# Altium schematic symbol library 分立器件.SchLib: 215 symbols (part 1 of 2)
Pins are listed as number, name and electrical type; pins without a type are passive.

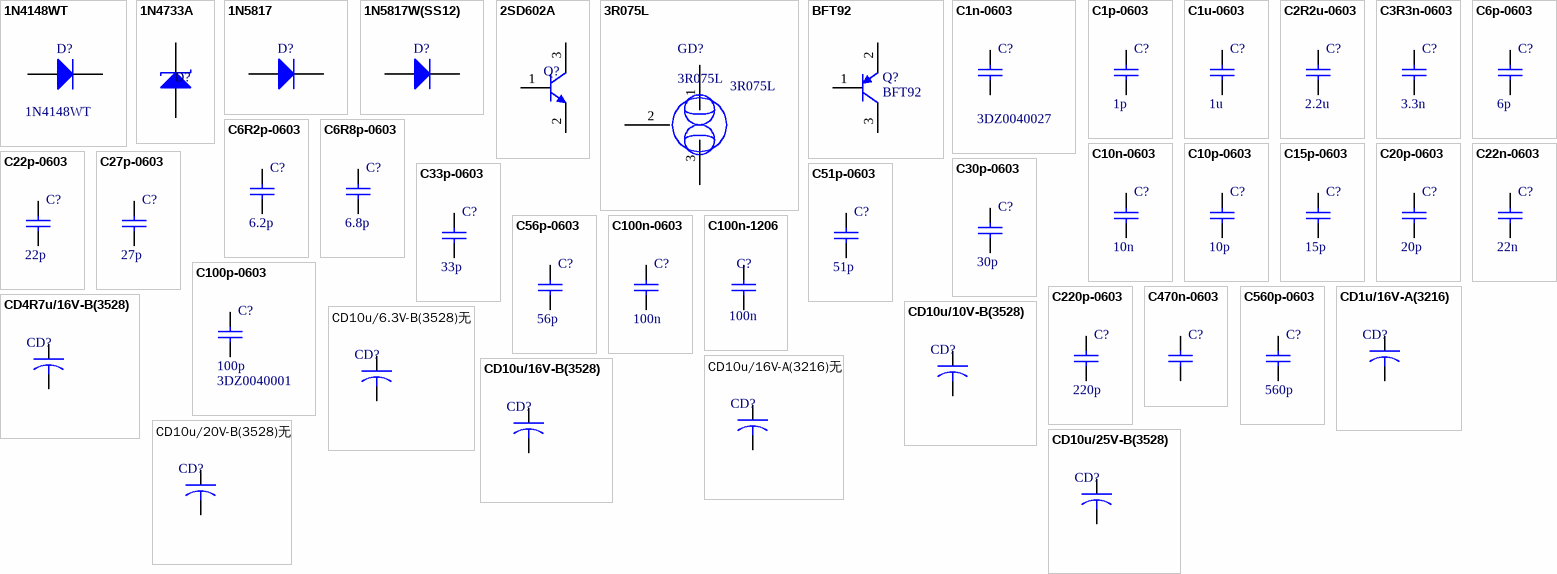
[diagram p0: symbols 1N4148WT to CD10u/25V-B(3528)]

## 1N4148WT
designator D?
Pb-free, 贴片二极管,1N4148WT,BVk=75V(IR=5uA),VF=0.62~1V,Io=150mA,Ir=1uA,Trr=4ns,Tj=-55~+150℃，Tstg=-55~+150℃,SOD523; Part Number: 3DZ0060004; specification: Pb-free,贴片二极管,1N4148WT,BVk=75V(IR=5uA),VF=0.62~1V,Io=150mA,Ir=1uA,Trr=4ns,Tj=-55~+150℃,Tstg=-55~+150℃,SOD523; Value: 1N4148WT
footprint SOD523
pins: 1 A, 2 K

## 1N4733A
designator D?  (value not drawn)
Pb-free,直插稳压二极管,1N4733A,Volts=5.1V,1W,DO-41,-65～175℃; Part Number: 3DZ0060204; Value: 1N4733A; specification: Pb-free,直插稳压二极管,1N4733A,Volts=5.1V,1W,DO-41,-65～175℃
footprint DO-41H
pins: 1 A, 2 K

## 1N5817
designator D?  (value not drawn)
Pb-free,直插肖特基二极管,IN5817,Vr=20V,Io=1A,Ir=1mA,Vf=0.55V,4ns,DO-41,-65~+150℃; Part Number: 3DZ0061004; Value: 1N5817; specification: Pb-free,直插肖特基二极管,IN5817,Vr=20V,Io=1A,Ir=1mA,Vf=0.55V,4ns,DO-41,-65~+150℃
footprint DO-41H
pins: 1 A, 2 K

## 1N5817W(SS12)
designator D?  (value not drawn)
Pb-free,贴片肖特基二极管,1N5817W,Pd=1.1W,Vr=20V,Io=1A,Ir=0.2mA,Vf=0.5V,4ns,SMA(DO214-AC), -65~+125℃; Part Number: 3DZ0060003; Value: 1N5817W(SS12); specification: Pb-free, 贴片肖特基二极管,1N5817W,Pd=1.1W,Vr=20V,Io=1A,Ir=0.2mA,Vf=0.5V,4ns,SMA(DO214-AC), -65~+125℃
footprint DO-214AC(SMA)
pins: 1 A, 2 K

## 2SD602A
designator Q?  (value not drawn)
Pb-free,2SD602A,NPN,Vcbo=60V,Vceo=50V,Vebo=6V,Ic=1A,Tj=150℃,Tstg=-55~+150℃,SOT23; Part Number: 3DZ0065001; Value: 2SD602A; Specification: Pb-free,2SD602A,NPN,Vcbo=60V,Vceo=50V,Vebo=6V,Ic=1A,Tj=150℃,Tstg=-55~+150℃,SOT23
footprint SOT23A (SOT-23; 3 Leads; Body 3.0 x 2.5 mm, inc. leads (LxW max))
pins: 1 B, 2 E, 3 C

## 3R075L
designator GD?
Pb-free,三极陶瓷气体放电管,3R75,直流击穿电压75V,流通量10KA,10A 绝缘电阻：10GΩ 电容:1.5PF,8*10mm(琵琶型引线); Part Number: 3DZ0060701; Specification: Pb-free,三极陶瓷气体放电管,3R75,直流击穿电压75V,流通量10KA,10A 绝缘电阻：10GΩ 电容:1.5PF,8*10mm(琵琶型引线); Value: 3R075L
footprint 3RM-8
pins: 1, 2, 3

## BFT92
designator Q?
Pb-free,BFT92,PNP,Vcbo=-20V,Vceo=-15V,Vcbo=-2V,Ic=-25A,ft=5GHz,Tj=175℃,Tstg=-65~+150℃,SOT23; Part Number: 3DZ0065005; Specification: Pb-free,BFT92,PNP,Vcbo=-20V,Vceo=-15V,Vcbo=-2V,Ic=-25A,ft=5GHz,Tj=175℃,Tstg=-65~+150℃,SOT23; Value: BFT92
footprint SOT23A (SOT-23; 3 Leads; Body 3.0 x 2.5 mm, inc. leads (LxW max))
pins: 1 B, 2 E, 3 C

## C1n-0603
designator C?  Part Number: 3DZ0040027  (hidden comment: C1n-0603)
Pb-free,0603,1nF,X7R,±10%,50V,-55℃～125℃,N（三层电镀端头）,带装; Value: 1n; specification: Pb-free,0603,1nF,X7R,±10%,50V,-55℃～125℃,N（三层电镀端头）,带装
footprint C0603L (Chip Inductor; Body 1.6x0.8mm (LxW typ))
pins: 1, 2

## C1p-0603
designator C?  value 1p  (hidden comment: *)
Pb-free,0603,1pF,NPO,±5%,50V,-55℃～125℃,N（三层电镀端头）,带装; Part Number: 3DZ0040014; specification: Pb-free,0603,1pF,NPO,±5%,50V,-55℃～125℃,N（三层电镀端头）,带装
footprint C0603L (Chip Inductor; Body 1.6x0.8mm (LxW typ))
pins: 1, 2

## C1u-0603
designator C?  value 1u  (hidden comment: C1u-0603)
Pb-free,0603,1uF,X7R,10%,16V,-55℃～125℃,N（三层电镀端头）,带装; Part Number: 3DZ0040008; specification: Pb-free,0603,1uF,X7R,10%,16V,-55℃～125℃,N（三层电镀端头）,带装
footprint C0603L (Chip Inductor; Body 1.6x0.8mm (LxW typ))
pins: 1, 2

## C2R2u-0603
designator C?  value 2.2u  (hidden comment: *)
Pb-free,0603,2.2uF,X5R,+10%,6.3V,-55℃～125℃,N（三层电镀端头）,带装; Part Number: 3DZ0040041; specification: Pb-free,0603,2.2uF,X5R,+10%,6.3V,-55℃～125℃,N（三层电镀端头）,带装
footprint C0603L (Chip Inductor; Body 1.6x0.8mm (LxW typ))
pins: 1, 2

## C3R3n-0603
designator C?  value 3.3n  (hidden comment: *)
Pb-free,0603,3.3nF,X7R,±10%,50V,-55℃～125℃,N（三层电镀端头）,带装; Part Number: 3DZ0040021; specification: Pb-free,0603,3.3nF,X7R,±10%,50V,-55℃～125℃,N（三层电镀端头）,带装
footprint C0603L (Chip Inductor; Body 1.6x0.8mm (LxW typ))
pins: 1, 2

## C6p-0603
designator C?  value 6p  (hidden comment: *)
Pb-free,0603,6pF,NPO,±5%,50V,-55℃～125℃,N（三层电镀端头）,带装; Part Number: 3DZ0040026; specification: Pb-free,0603,6pF,NPO,±5%,50V,-55℃～125℃,N（三层电镀端头）,带装
footprint C0603L (Chip Inductor; Body 1.6x0.8mm (LxW typ))
pins: 1, 2

## C6R2p-0603
designator C?  value 6.2p  (hidden comment: *)
Pb-free,0603,6.2pF,NPO,±5%,50V,-55℃～125℃,N（三层电镀端头）,带装; Part Number: 3DZ0040025; specification: Pb-free,0603,6.2pF,NPO,±5%,50V,-55℃～125℃,N（三层电镀端头）,带装
footprint C0603L (Chip Inductor; Body 1.6x0.8mm (LxW typ))
pins: 1, 2

## C6R8p-0603
designator C?  value 6.8p  (hidden comment: *)
Pb-free,0603,6.8pF,NPO,±5%,50V,-55℃～125℃,N（三层电镀端头）,带装; Part Number: 3DZ0040042; specification: Pb-free,0603,6.8pF,NPO,±5%,50V,-55℃～125℃,N（三层电镀端头）,带装
footprint C0603L (Chip Inductor; Body 1.6x0.8mm (LxW typ))
pins: 1, 2

## C10n-0603
designator C?  value 10n  (hidden comment: *)
Pb-free,0603,10nF,X7R,,±10%,50V,-55℃～125℃,N（三层电镀端头）,带装; Part Number: 3DZ0040004; specification: Pb-free,0603,10nF,X7R,,±10%,50V,-55℃～125℃,N（三层电镀端头）,带装
footprint C0603L (Chip Inductor; Body 1.6x0.8mm (LxW typ))
pins: 1, 2

## C10p-0603
designator C?  value 10p  (hidden comment: *)
Pb-free,0603,10pF,NPO,±5%,50V,-55℃～125℃,N（三层电镀端头）,带装; Part Number: 3DZ0040010; specification: Pb-free,0603,10pF,NPO,±5%,50V,-55℃～125℃,N（三层电镀端头）,带装
footprint C0603L (Chip Inductor; Body 1.6x0.8mm (LxW typ))
pins: 1, 2

## C15p-0603
designator C?  value 15p  (hidden comment: *)
Pb-free,0603,15pF,NPO,±5%,50V,-55℃～125℃,N（三层电镀端头）,带装; Part Number: 3DZ0040013; specification: Pb-free,0603,15pF,NPO,±5%,50V,-55℃～125℃,N（三层电镀端头）,带装
footprint C0603L (Chip Inductor; Body 1.6x0.8mm (LxW typ))
pins: 1, 2

## C20p-0603
designator C?  value 20p  (hidden comment: *)
Pb-free,0603,20pF,NPO,±5%,50V,-55℃～125℃,N（三层电镀端头）,带装; Part Number: 3DZ0040015; specification: Pb-free,0603,20pF,NPO,±5%,50V,-55℃～125℃,N（三层电镀端头）,带装
footprint C0603L (Chip Inductor; Body 1.6x0.8mm (LxW typ))
pins: 1, 2

## C22n-0603
designator C?  value 22n  (hidden comment: *)
Pb-free,0603,22nF,X7R,±10%,50V,-55℃～125℃,N（三层电镀端头）,带装; Part Number: 3DZ0040018; specification: Pb-free,0603,22nF,X7R,±10%,50V,-55℃～125℃,N（三层电镀端头）,带装
footprint C0603L (Chip Inductor; Body 1.6x0.8mm (LxW typ))
pins: 1, 2

## C22p-0603
designator C?  value 22p  (hidden comment: *)
Pb-free,0603,22pF,NPO,±5%,50V,-55℃～125℃,N（三层电镀端头）,带装; Part Number: 3DZ0040019; specification: Pb-free,0603,22pF,NPO,±5%,50V,-55℃～125℃,N（三层电镀端头）,带装
footprint C0603L (Chip Inductor; Body 1.6x0.8mm (LxW typ))
pins: 1, 2

## C27p-0603
designator C?  value 27p  (hidden comment: *)
Pb-free,0603,27pF,NPO,±5%,50V,-55℃～125℃,N（三层电镀端头）,带装; Part Number: 3DZ0040020; specification: Pb-free,0603,27pF,NPO,±5%,50V,-55℃～125℃,N（三层电镀端头）,带装
footprint C0603L (Chip Inductor; Body 1.6x0.8mm (LxW typ))
pins: 1, 2

## C30p-0603
designator C?, comment 30p
Pb-free,0603,30pF,NPO,±1%,50V,-55℃～125℃,N（三层电镀端头）,带装; Part Number: 3DZ0040036; specification: Pb-free,0603,30pF,NPO,±1%,50V,-55℃～125℃,N（三层电镀端头）,带装; Value: 30p
footprint C0603L (Chip Inductor; Body 1.6x0.8mm (LxW typ))
pins: 1, 2

## C33p-0603
designator C?  value 33p  (hidden comment: *)
Pb-free,0603,33pF,NPO,±5%,50V,-55℃～125℃,N（三层电镀端头）,带装; Part Number: 3DZ0040037; specification: Pb-free,0603,33pF,NPO,±5%,50V,-55℃～125℃,N（三层电镀端头）,带装
footprint C0603L (Chip Inductor; Body 1.6x0.8mm (LxW typ))
pins: 1, 2

## C51p-0603
designator C?  value 51p  (hidden comment: *)
Pb-free,0603,51pF,NPO,±5%,50V,-55℃～125℃,N（三层电镀端头）,带装; Part Number: 3DZ0040023; specification: Pb-free,0603,51pF,NPO,±5%,50V,-55℃～125℃,N（三层电镀端头）,带装
footprint C0603L (Chip Inductor; Body 1.6x0.8mm (LxW typ))
pins: 1, 2

## C56p-0603
designator C?  value 56p  (hidden comment: *)
Pb-free,0603,56pF,NPO,±5%,50V,-55℃～125℃,N（三层电镀端头）,带装; Part Number: 3DZ0040035; specification: Pb-free,0603,56pF,NPO,±5%,50V,-55℃～125℃,N（三层电镀端头）,带装
footprint C0603L (Chip Inductor; Body 1.6x0.8mm (LxW typ))
pins: 1, 2

## C100n-0603
designator C?  value 100n  (hidden comment: *)
Pb-free,0603,100nF,X7R,±10%,50V,-55℃～125℃,N（三层电镀端头）,带装; Part Number: 3DZ0040006; specification: Pb-free,0603,100nF,X7R,±10%,50V,-55℃～125℃,N（三层电镀端头）,带装
footprint C0603L (Chip Inductor; Body 1.6x0.8mm (LxW typ))
pins: 1, 2

## C100n-1206
designator C?  value 100n  (hidden comment: C100n-1206)
Pb-free,1206L,100nF,NPO,±10%,50V,-55℃～125℃,N（三层电镀端头）,带装; Part Number: 3DZ0040032; specification: Pb-free,1206L,100nF,NPO,±10%,50V,-55℃～125℃,N（三层电镀端头）,带装
footprint C1206L
pins: 1, 2

## C100p-0603
designator C?  value 100p  Part Number: 3DZ0040001  (hidden comment: *)
Pb-free,0603,100pF,NPO,±5%,50V,-55℃～125℃,N（三层电镀端头）,带装; specification: Pb-free,0603,100pF,NPO,±5%,50V,-55℃～125℃,N（三层电镀端头）,带装
footprint C0603L (Chip Inductor; Body 1.6x0.8mm (LxW typ))
pins: 1, 2

## C220p-0603
designator C?  value 220p  (hidden comment: *)
Pb-free,0603,220pF,NPO,±5%,50V,-55℃～125℃,N（三层电镀端头）,带装; Part Number: 3DZ0040017; specification: Pb-free,0603,220pF,NPO,±5%,50V,-55℃～125℃,N（三层电镀端头）,带装
footprint C0603L (Chip Inductor; Body 1.6x0.8mm (LxW typ))
pins: 1, 2

## C470n-0603
designator C?  (value not drawn)
Pb-free,0603,470nF,X7R,10%,16V,-55℃～125℃,N（三层电镀端头）,带装; Part Number: 3DZ0040040; specification: Pb-free,0603,470nF,X7R,10%,16V,-55℃～125℃,N（三层电镀端头）,带装; Value: 470nF
footprint C0603L (Chip Inductor; Body 1.6x0.8mm (LxW typ))
pins: 1, 2

## C560p-0603
designator C?  value 560p  (hidden comment: *)
Pb-free,0603,560pF,NPO,±5%,50V,-55℃～125℃,N（三层电镀端头）,带装; Part Number: 3DZ0040038; specification: Pb-free,0603,560pF,NPO,±5%,50V,-55℃～125℃,N（三层电镀端头）,带装
footprint C0603L (Chip Inductor; Body 1.6x0.8mm (LxW typ))
pins: 1, 2

## CD1u/16V-A(3216)
designator CD?  (value not drawn)
Pb-free,贴片钽电容,1uF,±10%,16V,SMD,A型(3216),-25～+85℃,带装; Part Number: 3DZ0040214; Value: 1u/16V; specification: Pb-free,贴片钽电容,1uF,±10%,16V,SMD,A型(3216),-25～+85℃,带装
footprint C_TAN_A(3216) (Capacitor, SM Tantalum; Body 3.2 x 1.6 mm (LxW typ))
pins: 1, 2

## CD4R7u/16V-B(3528)
designator CD?  (value not drawn)
Pb-free,贴片钽电容,4.7uF,±10%,16V,SMD,B型(3528),-25～+85℃,带装; Part Number: 3DZ0040204; specification: Pb-free,贴片钽电容,4.7uF,±10%,16V,SMD,B型(3528),-25～+85℃,带装; Value: 4R7u/16V
footprint C_TAN_B(3528) (Capacitor, SM Tantalum; Body 3.2 x 1.6 mm (LxW typ))
pins: 1, 2

## CD10u/6.3V-B(3528)无
designator CD?  (value not drawn)
Pb-free,贴片钽电容,10uF,±10%,6.3V,SMD,B型(3528),-25～+85℃,带装; Part Number: 3DZ0040209; specification: Pb-free,贴片钽电容,10uF,±10%,6.3V,SMD,B型(3528),-25～+85℃,带装; Value: 10u/6.3V
footprint C_TAN_B(3528) (Capacitor, SM Tantalum; Body 3.2 x 1.6 mm (LxW typ))
pins: 1, 2

## CD10u/10V-B(3528)
designator CD?  (value not drawn)
Pb-free,贴片钽电容,10uF,±10%,10V,SMD,B型(3528),-25～+85℃,带装; Part Number: 3DZ0040202; specification: Pb-free,贴片钽电容,10uF,±10%,10V,SMD,B型(3528),-25～+85℃,带装; Value: 10u/10V
footprint C_TAN_B(3528) (Capacitor, SM Tantalum; Body 3.2 x 1.6 mm (LxW typ))
pins: 1, 2

## CD10u/16V-A(3216)无
designator CD?  (value not drawn)
Pb-free,贴片钽电容,10uF,±10%,16V,SMD,A型(3216),-25～+85℃,带装; Part Number: 3DZ0040206; specification: Pb-free,贴片钽电容,10uF,±10%,16V,SMD,A型(3216),-25～+85℃,带装; Value: 10u/16V
footprint C_TAN_A(3216) (Capacitor, SM Tantalum; Body 3.2 x 1.6 mm (LxW typ))
pins: 1, 2

## CD10u/16V-B(3528)
designator CD?  (value not drawn)
Pb-free,贴片钽电容,10uF,±10%,16V,SMD,B型(3528),-25～+85℃,带装; Part Number: 3DZ0040205; specification: Pb-free,贴片钽电容,10uF,±10%,16V,SMD,B型(3528),-25～+85℃,带装; Value: 10u/16V
footprint C_TAN_B(3528) (Capacitor, SM Tantalum; Body 3.2 x 1.6 mm (LxW typ))
pins: 1, 2

## CD10u/20V-B(3528)无
designator CD?  (value not drawn)
Pb-free,贴片钽电容,10uF,±10%,20V,SMD,B型(3528),-25～+85℃,带装; Part Number: 3DZ0040207; specification: Pb-free,贴片钽电容,10uF,±10%,20V,SMD,B型(3528),-25～+85℃,带装; Value: 10u/20V
footprint C_TAN_B(3528) (Capacitor, SM Tantalum; Body 3.2 x 1.6 mm (LxW typ))
pins: 1, 2

## CD10u/25V-B(3528)
designator CD?  (value not drawn)
Pb-free,贴片钽电容,10uF,±10%,25V,SMD,B型(3528),-25～+85℃,带装; Part Number: 3DZ0040212; specification: Pb-free,贴片钽电容,10uF,±10%,25V,SMD,B型(3528),-25～+85℃,带装; Value: 10u/25V
footprint C_TAN_B(3528) (Capacitor, SM Tantalum; Body 3.2 x 1.6 mm (LxW typ))
pins: 1, 2

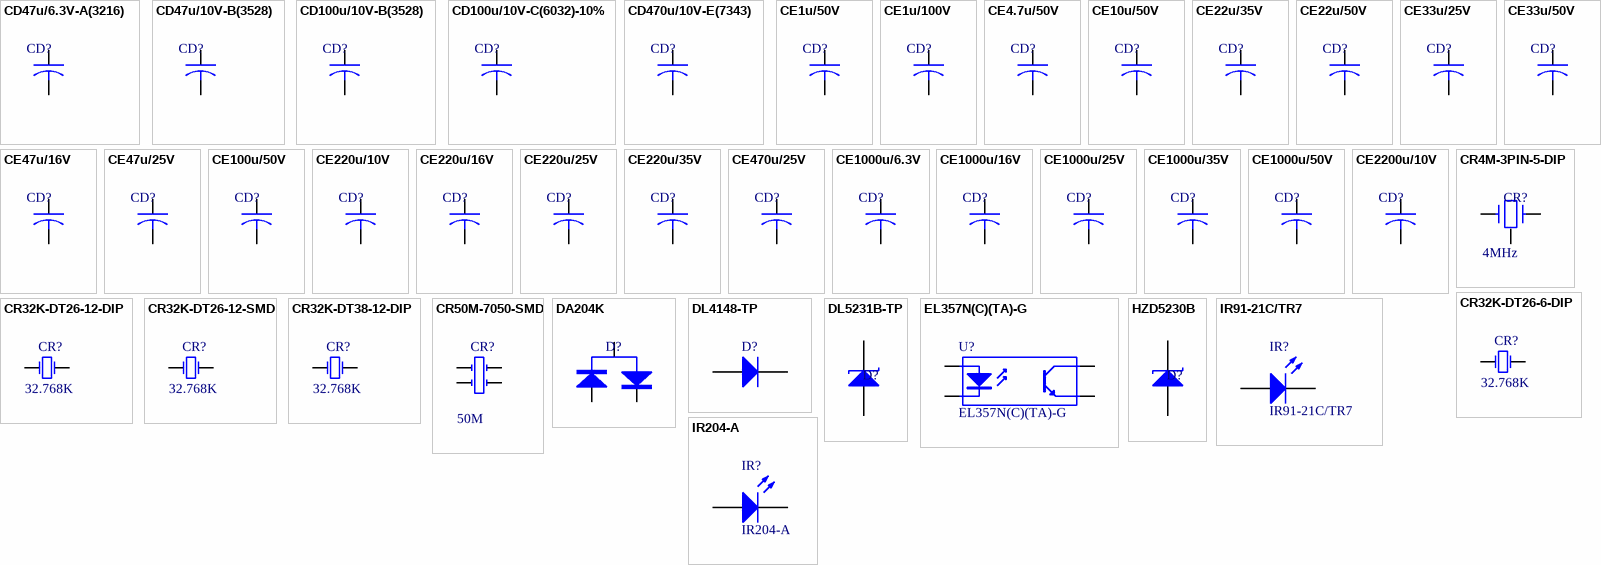
[diagram p1: symbols CD47u/6.3V-A(3216) to IR204-A]

## CD47u/6.3V-A(3216)
designator CD?  (value not drawn)
Pb-free,贴片钽电容,47uF,±10%,6.3V,SMD,A型(3216),-25～+85℃,带装; Part Number: 3DZ0040210; specification: Pb-free,贴片钽电容,47uF,±10%,6.3V,SMD,A型(3216),-25～+85℃,带装; Value: 47u/6.3V
footprint C_TAN_A(3216) (Capacitor, SM Tantalum; Body 3.2 x 1.6 mm (LxW typ))
pins: 1, 2

## CD47u/10V-B(3528)
designator CD?  (value not drawn)
Pb-free,贴片钽电容,47uF,±10%,10V,SMD,B型(3528),-25～+85℃,带装; Part Number: 3DZ0040203; specification: Pb-free,贴片钽电容,47uF,±10%,10V,SMD,B型(3528),-25～+85℃,带装; Value: 47u/10V
footprint C_TAN_B(3528) (Capacitor, SM Tantalum; Body 3.2 x 1.6 mm (LxW typ))
pins: 1, 2

## CD100u/10V-B(3528)
designator CD?  (value not drawn)
Pb-free,贴片钽电容,100uF,±20%,10V,SMD,B型(3528),-25～+85℃,带装; Part Number: 3DZ0040211; specification: Pb-free,贴片钽电容,100uF,±20%,10V,SMD,B型(3528),-25～+85℃,带装; Value: 100u/10V
footprint C_TAN_B(3528) (Capacitor, SM Tantalum; Body 3.2 x 1.6 mm (LxW typ))
pins: 1, 2

## CD100u/10V-C(6032)-10%
designator CD?  (value not drawn)
Pb-free,贴片钽电容,100uF,±10%,10V,SMD,C型(6032),-25～+85℃,带装; Part Number: 3DZ0040213; specification: Pb-free,贴片钽电容,100uF,±10%,10V,SMD,C型(6032),-25～+85℃,带装; Value: 100u/10V
footprint C_TAN_B(3528) (Capacitor, SM Tantalum; Body 3.2 x 1.6 mm (LxW typ))
pins: 1, 2

## CD470u/10V-E(7343)
designator CD?  (value not drawn)
Pb-free,贴片钽电容,470uF,±10%,10V,SMD,E型(7343),-25～+85℃,带装; Part Number: 3DZ0040201; specification: Pb-free,贴片钽电容,470uF,±10%,10V,SMD,E型(7343),-25～+85℃,带装; Value: 470u/10V
footprint C_TAN_E(7343) (Capacitor, SM Tantalum; Body 3.2 x 1.6 mm (LxW typ))
pins: 1, 2

## CE1u/50V
designator CD?  (value not drawn)
Pb-free,直插铝电解电容,1uF,50V,YXA系列,1000H,±20%(20℃,120HZ),DIP,4*7mm,-40℃～105℃,13mA(105℃, 100HZ),Rubycon; Part Number: 3DZ0041113; Value: 1u/50V; specification: Pb-free,直插铝电解电容,1uF,50V,YXA系列,1000H,±20%(20℃,120HZ),DIP,4*7mm,-40℃～105℃,13mA(105℃, 100HZ),Rubycon
footprint C4.0*7-DIP
pins: 1, 2

## CE1u/100V
designator CD?  (value not drawn)
Pb-free,直插铝电解电容,1uF,100V,SHL系列,2000H,±20%(20℃,120HZ),DIP,5*11mm,-40℃～85℃,24mA(85℃, 120HZ),Rubycon; Part Number: 3DZ0041119; specification: Pb-free,直插铝电解电容,1uF,100V,SHL系列,2000H,±20%(20℃,120HZ),DIP,5*11mm,-40℃～85℃,24mA(85℃, 120HZ),Rubycon; Value: 1u/100V
footprint C10*12.5-DIP
pins: 1, 2

## CE4.7u/50V
designator CD?  (value not drawn)
Pb-free,直插铝电解电容,4.7uF,50V,YXA系列,1000H,±20%(20℃,120HZ),DIP,4*7mm,-40℃～105℃,32mA(105℃, 100HZ),Rubycon; Part Number: 3DZ0041111; Specification: Pb-free,直插铝电解电容,4.7uF,50V,YXA系列,1000H,±20%(20℃,120HZ),DIP,4*7mm,-40℃～105℃,32mA(105℃, 100HZ),Rubycon; Value: 4.7u/50V
footprint C4.0*7-DIP
pins: 1, 2

## CE10u/50V
designator CD?  (value not drawn)
Pb-free,直插铝电解电容,10uF,50V,YXA系列,1000H,±20%(20℃,120HZ),DIP,5*11mm,-40℃～105℃,47mA(105℃, 100HZ),Rubycon; Part Number: 3DZ0041112; specification: Pb-free,直插铝电解电容,10uF,50V,YXA系列,1000H,±20%(20℃,120HZ),DIP,5*11mm,-40℃～105℃,47mA(105℃, 100HZ),Rubycon; Value: 10u/50V
footprint C10*12.5-DIP
pins: 1, 2

## CE22u/35V
designator CD?  (value not drawn)
Pb-free,直插铝电解电容,22uF,35V,YXA系列,1000H,±20%(20℃,120HZ),DIP,5*11mm,-40℃～105℃,64mA(105℃, 100HZ),Rubycon; Part Number: 3DZ0041123; specification: Pb-free,直插铝电解电容,22uF,35V,YXA系列,1000H,±20%(20℃,120HZ),DIP,5*11mm,-40℃～105℃,64mA(105℃, 100HZ),Rubycon; Value: 22u/35V
footprint C5.0*11-DIP
pins: 1, 2

## CE22u/50V
designator CD?  (value not drawn)
Pb-free,直插铝电解电容,22uF,50V,YXA系列,1000H,±20%(20℃,120HZ),DIP,5*11mm,-40℃～105℃,70mA(105℃, 100HZ),Rubycon; Part Number: 3DZ0041114; specification: Pb-free,直插铝电解电容,22uF,50V,YXA系列,1000H,±20%(20℃,120HZ),DIP,5*11mm,-40℃～105℃,70mA(105℃, 100HZ),Rubycon; Value: 22u/50V
footprint C5.0*11-DIP
pins: 1, 2

## CE33u/25V
designator CD?  (value not drawn)
Pb-free,直插铝电解电容,33uF,25V,YXA系列,1000H,±20%(20℃,120HZ),DIP,5*11mm,-40℃～105℃,69mA(105℃, 100HZ),Rubycon; Part Number: 3DZ0041106; Specification: Pb-free,直插铝电解电容,33uF,25V,YXA系列,1000H,±20%(20℃,120HZ),DIP,5*11mm,-40℃～105℃,69mA(105℃, 100HZ),Rubycon; Value: 33u/25V
footprint C5.0*11-DIP
pins: 1, 2

## CE33u/50V
designator CD?  (value not drawn)
Pb-free,直插铝电解电容,33uF,50V,YXA系列,1000H,±20%(20℃,120HZ),DIP,5*11mm,-40℃～105℃,94mA(105℃, 100HZ),Rubycon; Part Number: 3DZ0041115; Specification: Pb-free,直插铝电解电容,33uF,50V,YXA系列,1000H,±20%(20℃,120HZ),DIP,5*11mm,-40℃～105℃,94mA(105℃, 100HZ),Rubycon; Value: 33u/50V
footprint C5.0*11-DIP
pins: 1, 2

## CE47u/16V
designator CD?  (value not drawn)
Pb-free,直插铝电解电容,47uF,16V,YXA系列,1000H,±20%(20℃,120HZ),DIP,5*11mm,-40℃～105℃,80mA(105℃, 100HZ),Rubycon; Part Number: 3DZ0041118; Specification: Pb-free,直插铝电解电容,47uF,16V,YXA系列,1000H,±20%(20℃,120HZ),DIP,5*11mm,-40℃～105℃,80mA(105℃, 100HZ),Rubycon; Value: 47u/16V
footprint C5.0*11-DIP
pins: 1, 2

## CE47u/25V
designator CD?  (value not drawn)
Pb-free,直插铝电解电容,47uF,25V,YXA系列,1000H,±20%(20℃,120HZ),DIP,5*11mm,-40℃～105℃,84mA(105℃, 100HZ),Rubycon; Part Number: 3DZ0041118; Specification: Pb-free,直插铝电解电容,47uF,25V,YXA系列,1000H,±20%(20℃,120HZ),DIP,5*11mm,-40℃～105℃,84mA(105℃, 100HZ),Rubycon; Value: 47u/25V
footprint C5.0*11-DIP
pins: 1, 2

## CE100u/50V
designator CD?  (value not drawn)
Pb-free,直插铝电解电容,100uF,50V,YXA系列,1000H,±20%(20℃,120HZ),DIP,8*11.5mm,-40℃～105℃,200mA(105℃, 100HZ),Rubycon; Part Number: 3DZ0041128; specification: Pb-free,直插铝电解电容,100uF,50V,YXA系列,1000H,±20%(20℃,120HZ),DIP,8*11.5mm,-40℃～105℃,200mA(105℃, 100HZ),Rubycon; Value: 100u/50V
footprint C10*12.5-DIP
pins: 1, 2

## CE220u/10V
designator CD?  (value not drawn)
Pb-free,直插铝电解电容,220uF,10V,NXB系列(低ESR,超低阻抗),2000H,±20%(20℃,120HZ),DIP,6.3*11mm,-40℃～105℃,175mA(105℃, 100HZ),SAMYOUNG; Part Number: 3DZ0041117; specification: Pb-free,直插铝电解电容,220uF,10V,NXB系列(低ESR,超低阻抗),2000H,±20%(20℃,120HZ),DIP,6.3*11mm,-40℃～105℃,175mA(105℃, 100HZ),SAMYOUNG; Value: 220u/10V
footprint C5.0*11-DIP
pins: 1, 2

## CE220u/16V
designator CD?  (value not drawn)
Pb-free,直插铝电解电容,220uF,16V,YXA系列,1000H,±20%(20℃,120HZ),DIP,6.3*11mm,-40℃～105℃,220mA(105℃, 100HZ),Rubycon; Part Number: 3DZ0041122; specification: Pb-free,直插铝电解电容,220uF,16V,YXA系列,1000H,±20%(20℃,120HZ),DIP,6.3*11mm,-40℃～105℃,220mA(105℃, 100HZ),Rubycon; Value: 220u/16V
footprint C6.3*11-DIP
pins: 1, 2

## CE220u/25V
designator CD?  (value not drawn)
Pb-free,直插铝电解电容,220uF,25V,YXA系列,1000H,±20%(20℃,120HZ),DIP,8*11.5mm,-40℃～105℃,240mA(105℃, 100HZ),Rubycon; Part Number: 3DZ0041104; specification: Pb-free,直插铝电解电容,220uF,25V,YXA系列,1000H,±20%(20℃,120HZ),DIP,8*11.5mm,-40℃～105℃,240mA(105℃, 100HZ),Rubycon; Value: 220u/25V
footprint C8.0*11.5-dip
pins: 1, 2

## CE220u/35V
designator CD?  (value not drawn)
Pb-free,直插铝电解电容,220uF,35V,YXA系列,1000H,±20%(20℃,120HZ),DIP,10*12.5mm,-40℃～105℃,240mA(105℃, 100HZ),Rubycon; Part Number: 3DZ0041105; specification: Pb-free,直插铝电解电容,220uF,35V,YXA系列,1000H,±20%(20℃,120HZ),DIP,10*12.5mm,-40℃～105℃,240mA(105℃, 100HZ),Rubycon; Value: 220u/35V
footprint C10*12.5-DIP
pins: 1, 2

## CE470u/25V
designator CD?  (value not drawn)
Pb-free,直插铝电解电容,470uF,25V,YXA系列,2000H,±20%(20℃,120HZ),DIP,10*12.5mm,-40℃～105℃,440mA(105℃, 100HZ),Rubycon; Part Number: 3DZ0041107; Specification: Pb-free,直插铝电解电容,470uF,25V,YXA系列,2000H,±20%(20℃,120HZ),DIP,10*12.5mm,-40℃～105℃,440mA(105℃, 100HZ),Rubycon; Value: 470u/25V
footprint C10*12.5-DIP
pins: 1, 2

## CE1000u/6.3V
designator CD?  (value not drawn)
Pb-free,直插铝电解电容,1000uF,6.3V,YXA系列,1000H,±20%(20℃,120HZ),DIP,8*11.5mm,-40℃～105℃460mA(105℃, 100HZ),Rubycon; Part Number: 3DZ0041130; specification: Pb-free,直插铝电解电容,1000uF,6.3V,YXA系列,1000H,±20%(20℃,120HZ),DIP,8*11.5mm,-40℃～105℃460mA(105℃, 100HZ),Rubycon; Value: 1000u/6.3V
footprint C8.0*11.5-dip
pins: 1, 2

## CE1000u/16V
designator CD?  (value not drawn)
Pb-free,直插铝电解电容,1000uF,16V,YXA系列,2000H,±20%(20℃,120HZ),DIP,10*16mm,-40℃～85℃,640mA(85℃, 120HZ),Rubycon; Part Number: 3DZ0041120; specification: Pb-free,直插铝电解电容,1000uF,16V,YXA系列,2000H,±20%(20℃,120HZ),DIP,10*16mm,-40℃～85℃,640mA(85℃, 120HZ),Rubycon; Value: 1000u/16V
footprint C10*12.5-DIP
pins: 1, 2

## CE1000u/25V
designator CD?  (value not drawn)
Pb-free,直插铝电解电容,1000uF,25V,YXA系列,2000H,±20%(20℃,120HZ),DIP,10*20mm,-40℃～105℃,740mA(105℃, 100HZ),Rubycon; Part Number: 3DZ0041121; specification: Pb-free,直插铝电解电容,1000uF,25V,YXA系列,2000H,±20%(20℃,120HZ),DIP,10*20mm,-40℃～105℃,740mA(105℃, 100HZ),Rubycon; Value: 1000u/25V
footprint C10*12.5-DIP
pins: 1, 2

## CE1000u/35V
designator CD?  (value not drawn)
Pb-free,直插铝电解电容,1000uF,35V,YXA系列,3000H,±20%(20℃,120HZ),DIP,12.5*20mm,-40℃～105℃,865mA(105℃, 100HZ),Rubycon; Part Number: 3DZ0041108; Specification: Pb-free,直插铝电解电容,1000uF,35V,YXA系列,3000H,±20%(20℃,120HZ),DIP,12.5*20mm,-40℃～105℃,865mA(105℃, 100HZ),Rubycon; Value: 1000u/35V
footprint C12.5X20
pins: 1, 2

## CE1000u/50V
designator CD?  (value not drawn)
Pb-free,直插铝电解电容,1000uF,50V,YXA系列,3000H,±20%(20℃,120HZ),DIP,12.5*25mm,-40℃～105℃,1060mA(105℃, 100HZ),Rubycon; Part Number: 3DZ0041129; specification: Pb-free,直插铝电解电容,1000uF,50V,YXA系列,3000H,±20%(20℃,120HZ),DIP,12.5*25mm,-40℃～105℃,1060mA(105℃, 100HZ),Rubycon; Value: 1000u/50V
footprint C12.5X20
pins: 1, 2

## CE2200u/10V
designator CD?, comment 2200u/10V  (value not drawn)
Pb-free,直插铝电解电容,2200uF,10V,YXA系列,2000H,±20%(20℃,120HZ),DIP,10*20mm,-40℃～85℃,860mA(85℃, 120HZ),Rubycon; Part Number: 3DZ0041116; specification: Pb-free,直插铝电解电容,2200uF,10V,YXA系列,2000H,±20%(20℃,120HZ),DIP,10*20mm,-40℃～85℃,860mA(85℃, 120HZ),Rubycon; Value: 2200u/10V
footprint C10*12.5-DIP
pins: 1, 2

## CR4M-3PIN-5-DIP
designator CR?  value 4MHz  (hidden comment: CR4M-3PIN-5-DIP)
Pb-free,直插陶瓷谐振器,CSTLS4M00G53-B0,4M,12.5pF,精度±0.5,老化率±0.3(10年),DIP3,-20°C~+80°C; Part Number: 3DZ0070003; specification: Pb-free,直插陶瓷谐振器,CSTLS4M00G53-B0,4M,12.5pF,精度±0.5,老化率±0.3(10年),DIP3,-20°C~+80°C
footprint XTAL_DIP3SCO
pins: 1, 2, 3

## CR32K-DT26-6-DIP
designator CR?  value 32.768K  (hidden comment: CR32K-DT26-6-DIP)
Pb-free,直插晶体谐振器,DT26G-C06Q-32.768KHz,32.768KHz,6pF,±20ppm,DT26（2*6mm）,-40°C~+85°C; Part Number: 3DZ0070007; Specification: Pb-free,直插晶体谐振器,DT26G-C06Q-32.768KHz,32.768KHz,6pF,±20ppm,DT26（2*6mm）,-40°C~+85°C
footprint XTAL-SMD2S2*6
pins: 1 OSC1, 2 OSC2

## CR32K-DT26-12-DIP
designator CR?  value 32.768K  (hidden comment: CR32K-DT26-12-DIP)
Pb-free,直插晶体谐振器,DT26G-C12Q-32.768KHz,32.768KHz,12.5pF,±20ppm,DT26（2*6mm）,-40°C~+85°C; Part Number: 3DZ0070002; Specification: Pb-free,直插晶体谐振器,DT26G-C12Q-32.768KHz,32.768KHz,12.5pF,±20ppm,DT26（2*6mm）,-40°C~+85°C
footprint XTAL-SMD2S2*6
pins: 1 OSC1, 2 OSC2

## CR32K-DT26-12-SMD
designator CR?  value 32.768K  (hidden comment: CR32K-DT26-12-SMD)
Pb-free,贴片晶体谐振器,DT26G-C12Q-32.768KHz,32.768KHz,12.5pF,±20ppm,DT26（2*6mm）,-40°C~+85°C; Part Number: 3DZ0070101; Specification: Pb-free,贴片晶体谐振器,DT26G-C12Q-32.768KHz,32.768KHz,12.5pF,±20ppm,DT26（2*6mm）,-40°C~+85°C
footprint XTAL-SMD2S2*6
pins: 1 OSC1, 2 OSC2

## CR32K-DT38-12-DIP
designator CR?  value 32.768K  (hidden comment: CR32K-DT38-12-DIP)
Pb-free,直插晶体谐振器,DT38G-C12Q-32.768KHz,32.768KHz,12.5pF,±20ppm,DT38（3*8mm）,-40°C~+85°C; Part Number: 3DZ0070001; Specification: Pb-free,直插晶体谐振器,DT38G-C12Q-32.768KHz,32.768KHz,12.5pF,±20ppm,DT38（3*8mm）,-40°C~+85°C
footprint XTAL-DIP2S3*8
pins: 1 OSC1, 2 OSC2

## CR50M-7050-SMD
designator CR?  value 50M  (hidden comment: CR50M-7050-SMD)
Pb-free,有源晶体振荡器,X075NAGTC-50MHz,50MHz,VCC=3.3V,±50PPM,CMOS 15pF,OX75(7*5mm),-40°C~+85°C; Part Number: 3DZ0070102; Specification: Pb-free,有源晶体振荡器,X075NAGTC-50MHz,50MHz,VCC=3.3V,±50PPM,CMOS 15pF,OX75(7*5mm),-40°C~+85°C
footprint XTAL-SMD4S7050
pins: 1 OSC1, 1 OSC1, 1 OSC1, 2 OSC2

## DA204K
designator D?  (value not drawn)
Pb-free,贴片双二极管,DA204K,C-AC-A,Vf-max=1V（If=10mA）,SMD3,-55～150℃; Part Number: 3DZ0060203; Value: DA204K; specification: Pb-free,贴片双二极管,DA204K,C-AC-A,Vf-max=1V（If=10mA）,SMD3,-55～150℃
footprint SOT346 (SOT-23; 3 Leads; Body 3.0 x 2.5 mm, inc. leads (LxW max))
pins: 1 C, 2 A, 3 AC

## DL4148-TP
designator D?  (value not drawn)
Pb-free,贴片整流二极管,DL4148-TP, 100V, 200mA, 500mW, 4ns, LL34,-65~+175℃; Part Number: 3DZ0060002; Value: IN4148; specification: Pb-free, 贴片整流二极管,DL4148-TP, 100V, 200mA, 500mW, 4ns, LL34,-65~+175℃
footprint miniMELF (Chip Resistor; Body 3.2 x 1.6 mm (LxW typ))
pins: 1 A, 2 K

## DL5231B-TP
designator D?  (value not drawn)
Pb-free,贴片稳压二极管,DL5231B-TP,Volts=5.1V,500mW,LL34,-65～175℃; Part Number: 3DZ0060201; Value: DL5231B-TP; specification: Pb-free,贴片稳压二极管,DL5231B-TP,Volts=5.1V,500mW,LL34,-65～175℃
footprint miniMELF (Chip Resistor; Body 3.2 x 1.6 mm (LxW typ))
pins: 1 A, 2 K

## EL357N(C)(TA)-G
designator U?
Pb-Free,贴片光耦,EL357N(C)(TA)-G,Vf=1.2V,Vce=0.1V,VCCmax=24V,IF=16mA（25mAmax),Icmax=10mA,SO-4-2.54,-55~110℃; Part Number: 3DZ0020401; Value: EL357N(C)(TA)-G; Specification: Pb-Free,贴片光耦,EL357N(C)(TA)-G,Vf=1.2V,Vce=0.1V,VCCmax=24V,IF=16mA（25mAmax),Icmax=10mA,SO-4-2.54,-55~110℃
footprint SO-4-2.54 (Small Outline; 8 Leads; Body Width 3.9 mm; Pitch 1.27 mm)
pins: 1 A "Anode", 2 K "Cathode", 3 E "Emitter", 4 C "Collector"

## HZD5230B
designator D?  (value not drawn)
Pb-free,贴片稳压二极管,HZD5230B,Volts=4.7V,500mW,LL34,-65～175℃; Part Number: 3DZ0060202; Value: HZD5230B; specification: Pb-free,贴片稳压二极管,HZD5230B,Volts=4.7V,500mW,LL34,-65～175℃
footprint miniMELF (Chip Resistor; Body 3.2 x 1.6 mm (LxW typ))
pins: 1 A, 2 K

## IR91-21C/TR7
designator IR?
Pb-free,贴片红外发射二极管,IR91-21C/TR7,λP=940nm,辐射角度20°,5mW/sr@IF=20mA,If=65mA,ifp=1A,与PT91-21B/TR7配对使用,-40~+85℃; Part Number: 3DZ0061309; Specification: Pb-free,贴片红外发射二极管,IR91-21C/TR7,λP=940nm,辐射角度20°,5mW/sr@IF=20mA,If=65mA,ifp=1A,与PT91-21B/TR7配对使用,-40~+85℃; Value: IR91-21C/TR7
footprint LED_SMD_IRT
pins: 1 A, 2 K

## IR204-A
designator IR?
Pb-free,直插红外发射二极管,IR204-A,DIP,直径3mm,λP=940nm,,辐射角度20°,4.0mW/sr@IF=20mA,IF=100mA,IFP=1A,与PT204-B配对使用,-40~+85℃; Part Number: 3DZ0061306; Specification: Pb-free,直插红外发射二极管,IR204-A,DIP,直径3mm,λP=940nm,,辐射角度20°,4.0mW/sr@IF=20mA,IF=100mA,IFP=1A,与PT204-B配对使用,-40~+85℃; Value: IR204-A
footprint LED_3mm_IRT
pins: 1 A, 2 K

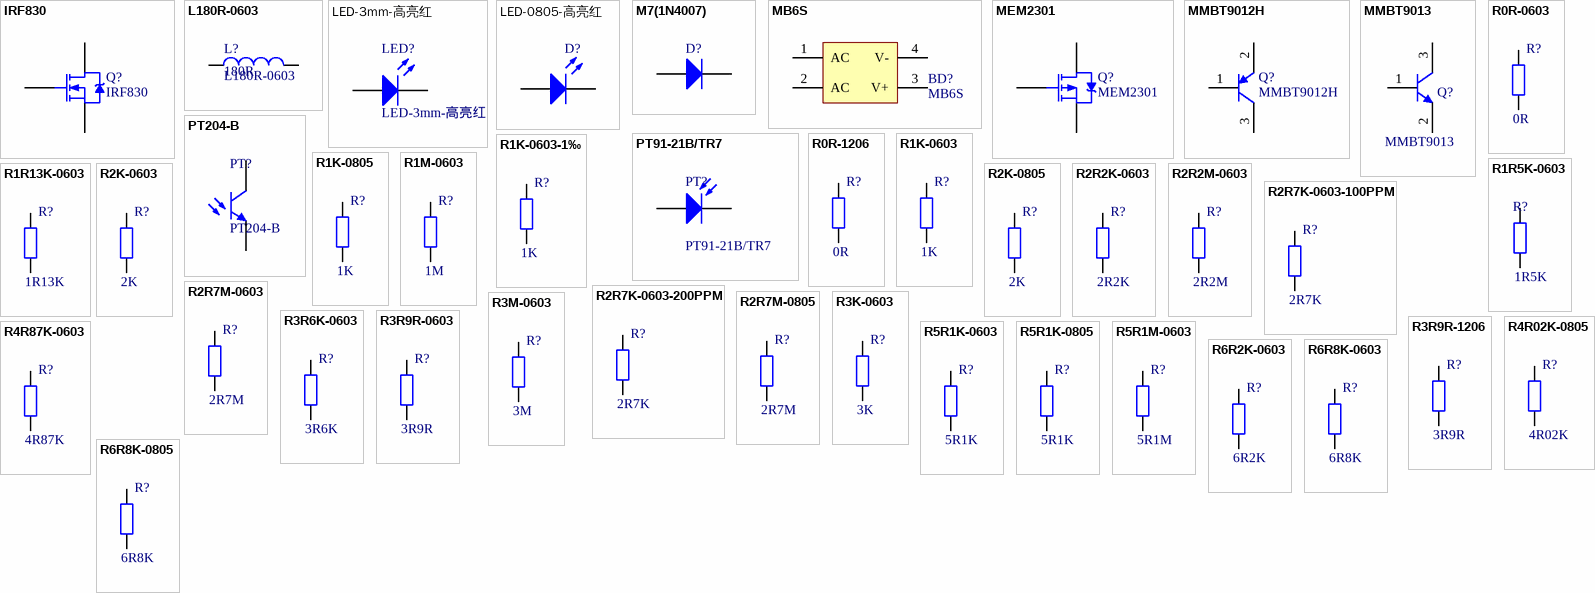
[diagram p2: symbols IRF830 to R6R8K-0805]

## IRF830
designator Q?
Pb-free,场效应管,IRF830,N沟道,Vds=500V,Vgs=±20V,ID=4.5A,1.3Ω,TO-220,–55~+150℃; Part Number: 3DZ0066101; Specification: Pb-free,场效应管,IRF830,N沟道,Vds=500V,Vgs=±20V,ID=4.5A,1.3Ω,TO-220,–55~+150℃; Value: IRF830
footprint TO-220 (TO, Thru-Hole, Vertical, Heatsink Mounted; 3 In-Line Leads; Pitch 2.54 mm)
pins: 1 G, 2 D, 3 S

## L180R-0603
designator L?  value 180R
Pb-free,片式磁珠,180Ω（@100MHz）,Rdc=0.45,IR=200mA,0603,±25%,; Part Number: 3DZ0052001; Specification: Pb-free,片式磁珠,180Ω（@100MHz）,Rdc=0.45,IR=200mA,0603,±25%,
footprint L0603L (Footprint not found)
pins: 1, 2

## LED-3mm-高亮红
designator LED?
Pb-free,直插发光二极管,LG30240,高亮红色,圆形,反向电压5V,正向压降(20mA时)1.9V,642nm,Imax<100uA,Pmax<100mW,反向漏电流<10uA,引线长度15mm,-30℃～85℃,Φ3.0; Part Number: 3DZ0061302; Value: LED-3mm-高亮红-LG30240; Specification: Pb-free,直插发光二极管,LG30240,高亮红色,圆形,反向电压5V,正向压降(20mA时)1.9V,642nm,Imax<100uA,Pmax<100mW,反向漏电流<10uA,引线长度15mm,-30℃～85℃,Φ3.0
footprint LED_3mm_RED
pins: 1 A, 2 K

## LED-0805-高亮红
designator D?  (value not drawn)
Pb-free,贴片发光二极管,HT17-2102SURC,0805,顶发光,高亮红光,方,反向电压5V,25mcd,-20℃～+85℃; Part Number: 3DZ0060301; Value: LED-0805-高亮红-HT17-2102SURC; specification: Pb-free,贴片发光二极管,HT17-2102SURC,0805,顶发光,高亮红光,方,反向电压5V,25mcd,-20℃～+85℃
footprint LED-0805_red
pins: 1 A, 2 K

## M7(1N4007)
designator D?  (value not drawn)
Pb-free,贴片整流二极管,M7(1N4007),1000V,1A,SMA(DO214-AC),-50~+150℃; Part Number: 3DZ0060001; Value: M7(1N4007); specification: Pb-free,贴片整流二极管,M7(1N4007),1000V,1A,SMA(DO214-AC),-50~+150℃
footprint DO-214AC(SMA)
pins: 1 A, 2 K

## MB6S
designator BD?
Pb-free,贴片整流桥,MB6S,IF=0.5A,VRRM=600V,VF=1V(IF=0.4A),TO-269AA(MBS),-55~+150℃; Part Number: 3DZ0020070; Specification: Pb-free,贴片整流桥,MB6S,IF=0.5A,VRRM=600V,VF=1V(IF=0.4A),TO-269AA(MBS),-55~+150℃; Value: MB6S
footprint SO-4-2.54 (Small Outline; 8 Leads; Body Width 3.9 mm; Pitch 1.27 mm)
pins: 1 AC, 2 AC, 3 V+, 4 V-

## MEM2301
designator Q?
Pb-free,场效应管,MEM2301,P沟道,Vds=-20V,Vgs=+8V,ID=-2.8A,0.093Ω,SOT23,–55~+150℃; Part Number: 3DZ0065103; Specification: Pb-free,场效应管,MEM2301,P沟道,Vds=-20V,Vgs=+8V,ID=-2.8A,0.093Ω,SOT23,–55~+150℃; Value: MEM2301
footprint SOT23A (SOT-23; 3 Leads; Body 3.0 x 2.5 mm, inc. leads (LxW max))
pins: 1 G, 2 S, 3 D

## MMBT9012H
designator Q?
Pb-free,MMBT9012H,PNP,Vcbo=-40V,Vceo=-20V,Vebo=-5V,Ic=-500mA,Tj=150℃,Tstg=-55~+150℃,SOT23; Part Number: 3DZ0065002; Specification: Pb-free,MMBT9012H,PNP,Vcbo=-40V,Vceo=-20V,Vebo=-5V,Ic=-500mA,Tj=150℃,Tstg=-55~+150℃,SOT23; Value: MMBT9012H
footprint SOT23A (SOT-23; 3 Leads; Body 3.0 x 2.5 mm, inc. leads (LxW max))
pins: 1 B, 2 E, 3 C

## MMBT9013
designator Q?
Pb-free,MMBT9012H,PNP,Vcbo=-40V,Vceo=-20V,Vebo=-5V,Ic=-500mA,Tj=150℃,Tstg=-55~+150℃,SOT23; Part Number: 3DZ0065003; Specification: Pb-free,MMBT9013H,NPN,Vcbo=40V,Vceo=20V,Vebo=5V,Ic=500mA,Tj=150℃,Tstg=-55~+150℃,SOT23; Value: MMBT9013
footprint SOT23A (SOT-23; 3 Leads; Body 3.0 x 2.5 mm, inc. leads (LxW max))
pins: 1 B, 2 E, 3 C

## PT91-21B/TR7
designator PT?
Pb-free,贴片红外接收二极管,PT91-21B/TR7,λP=940nm,Vceo<30V,Veco<5V,tr=15us,tf=15us,与IR91-21C/TR7配对使用,-25~+85℃; Part Number: 3DZ0061308; Specification: Pb-free,贴片红外接收二极管,PT91-21B/TR7,λP=940nm,Vceo<30V,Veco<5V,tr=15us,tf=15us,与IR91-21C/TR7配对使用,-25~+85℃; Value: PT91-21B/TR7
footprint LED_SMD_IRR
pins: 1 A, 2 K

## PT204-B
designator PT?
Pb-free,直插红外接收二极管,PT204-B,DIP,直径3mmλ,P=940nm,Vceo<30V,Veco<5V,tr=15us,tf=15us,与IR204-A配对使用,-25~+85℃; Part Number: 3DZ0061307; Specification: Pb-free,直插红外接收二极管,PT204-B,DIP,直径3mmλ,P=940nm,Vceo<30V,Veco<5V,tr=15us,tf=15us,与IR204-A配对使用,-25~+85℃; Value: PT204-B
footprint LED_3mm_IRR
pins: 1 E, 2 C

## R0R-0603
designator R?  value 0R  (hidden comment: R0R-0603)
Pb-free,0603,0Ω,1%,1/16w,±200PPM,50V,-55℃～155℃; Part Number: 3DZ0030001; specification: Pb-free,0603,0Ω,1%,1/16w,±200PPM,50V,-55℃～155℃
footprint R0603L (Chip Inductor; Body 1.6x0.8mm (LxW typ))
pins: 1, 2

## R0R-1206
designator R?  value 0R  (hidden comment: R0R-1206)
Pb-free,1206,0Ω,  5%, 1/4w, ±200PPM,100V,-55℃～155℃; Part Number: 3DZ0030002; specification: Pb-free,1206,0Ω,  5%, 1/4w, ±200PPM,100V,-55℃～155℃
footprint R1206L
pins: 1, 2

## R1K-0603
designator R?  value 1K  (hidden comment: R1K-0603)
Pb-free,0603,1kΩ,1%,1/16w,±200PPM,50V,-55℃～155℃; Part Number: 3DZ0030025; specification: Pb-free,0603,1kΩ,1%,1/16w,±200PPM,50V,-55℃～155℃
footprint R0603L (Footprint not found)
pins: 1, 2

## R1K-0603-1‰
designator R?  value 1K  (hidden comment: R1K-0603-1‰)
Pb-free,贴片高精密电阻,1KΩ,0603,±1‰,1/16W,±50PPM,50V,-55℃～155℃; Part Number: 3DZ0032002; specification: Pb-free,贴片高精密电阻,1KΩ,0603,±1‰,1/16W,±50PPM,50V,-55℃～155℃
footprint R0603L (Footprint not found)
pins: 1, 2

## R1K-0805
designator R?  value 1K  (hidden comment: R1K-0805)
Pb-free,0805,1kΩ,1%,1/8W,±100PPM,100V,-55℃～155℃; Part Number: 3DZ0030026; specification: Pb-free,0805,1kΩ,1%,1/8W,±100PPM,100V,-55℃～155℃
footprint R0805L
pins: 1, 2

## R1M-0603
designator R?  value 1M  (hidden comment: R1M-0603)
Pb-free,0603,1MΩ,1%,1/16w,±200PPM,50V,-55℃～155℃; Part Number: 3DZ0030027; specification: Pb-free,0603,1MΩ,1%,1/16w,±200PPM,50V,-55℃～155℃
footprint R0603L (Chip Inductor; Body 1.6x0.8mm (LxW typ))
pins: 1, 2

## R1R5K-0603
designator R?  value 1R5K  (hidden comment: R1R5K-0603)
Pb-free,0603,1.5kΩ,1%,1/16w,±200PPM,50V,-55℃～155℃; Part Number: 3DZ0030005; specification: Pb-free,0603,1.5kΩ,1%,1/16w,±200PPM,50V,-55℃～155℃
footprint R0603L (Chip Inductor; Body 1.6x0.8mm (LxW typ))
pins: 1, 2

## R1R13K-0603
designator R?  value 1R13K  (hidden comment: R1R13K-0603)
Pb-free,0603,1.13kΩ,1%,1/16w,±200PPM,50V,-55℃～155℃; Part Number: 3DZ0030003; specification: Pb-free,0603,1.13kΩ,1%,1/16w,±200PPM,50V,-55℃～155℃
footprint R0603L (Chip Inductor; Body 1.6x0.8mm (LxW typ))
pins: 1, 2

## R2K-0603
designator R?  value 2K  (hidden comment: R2K-0603)
Pb-free,0603,2kΩ,1%,1/16w,±200PPM,50V,-55℃～155℃; Part Number: 3DZ0030039; specification: Pb-free,0603,2kΩ,1%,1/16w,±200PPM,50V,-55℃～155℃
footprint R0603L (Chip Inductor; Body 1.6x0.8mm (LxW typ))
pins: 1, 2

## R2K-0805
designator R?  value 2K  (hidden comment: R2K-0805)
Pb-free,0805,2kΩ,1%,1/8W,±100PPM,100V,-55℃～155℃; Part Number: 3DZ0030040; specification: Pb-free,0805,2kΩ,1%,1/8W,±100PPM,100V,-55℃～155℃
footprint R0805L (Footprint not found)
pins: 1, 2

## R2R2K-0603
designator R?  value 2R2K  (hidden comment: *)
Pb-free,0603,2.2kΩ,1%,1/16w,±200PPM,50V,-55℃～155℃; Part Number: 3DZ0030079; specification: Pb-free,0603,2.2kΩ,1%,1/16w,±200PPM,50V,-55℃～155℃
footprint R0603L (Chip Inductor; Body 1.6x0.8mm (LxW typ))
pins: 1, 2

## R2R2M-0603
designator R?  value 2R2M  (hidden comment: R2R2M-0603)
Pb-free,0603,2.2MΩ,1%,1/16w,±200PPM,50V,-55℃～155℃; Part Number: 3DZ0030028; specification: Pb-free,0603,2.2MΩ,1%,1/16w,±200PPM,50V,-55℃～155℃
footprint R0603L (Chip Inductor; Body 1.6x0.8mm (LxW typ))
pins: 1, 2

## R2R7K-0603-100PPM
designator R?  value 2R7K  (hidden comment: *)
Pb-free,0603,2.7kΩ,1%,1/16W,±100PPM,50V,-55℃～155℃; Part Number: 3DZ0030101; specification: Pb-free,0603,2.7kΩ,1%,1/16W,±100PPM,50V,-55℃～155℃
footprint R0603L (Chip Inductor; Body 1.6x0.8mm (LxW typ))
pins: 1, 2

## R2R7K-0603-200PPM
designator R?  value 2R7K  (hidden comment: R2R7K-0603-200PPM)
Pb-free,0603,2.7kΩ,1%,1/16W,±200PPM,50V,-55℃～155℃; Part Number: 3DZ0030094; specification: Pb-free,0603,2.7kΩ,1%,1/16W,±200PPM,50V,-55℃～155℃
footprint R0603L (Chip Inductor; Body 1.6x0.8mm (LxW typ))
pins: 1, 2

## R2R7M-0603
designator R?  value 2R7M  (hidden comment: R2R7M-0603)
Pb-free,0603,2.7MΩ,1%,1/16w,±200PPM,50V,-55℃～155℃; Part Number: 3DZ0030029; specification: Pb-free,0603,2.7MΩ,1%,1/16w,±200PPM,50V,-55℃～155℃
footprint R0603L (Chip Inductor; Body 1.6x0.8mm (LxW typ))
pins: 1, 2

## R2R7M-0805
designator R?  value 2R7M  (hidden comment: R2R7M-0805)
Pb-free,0805,2.7MΩ,1%,1/8W,±100PPM,100V,-55℃～155℃; Part Number: 3DZ0030030; specification: Pb-free,0805,2.7MΩ,1%,1/8W,±100PPM,100V,-55℃～155℃
footprint R0805L (Footprint not found)
pins: 1, 2

## R3K-0603
designator R?  value 3K  (hidden comment: R3K-0603)
Pb-free,0603,3kΩ,1%,1/16w,±200PPM,50V,-55℃～155℃; Part Number: 3DZ0030051; specification: Pb-free,0603,3kΩ,1%,1/16w,±200PPM,50V,-55℃～155℃
footprint R0603L (Chip Inductor; Body 1.6x0.8mm (LxW typ))
pins: 1, 2

## R3M-0603
designator R?  value 3M  (hidden comment: R3M-0603)
Pb-free,0603,3MΩ,1%,1/16W,±100PPM,50V,-55℃～155℃; Part Number: 3DZ0030105; specification: Pb-free,0603,3MΩ,1%,1/16W,±100PPM,50V,-55℃～155℃
footprint R0603L (Chip Inductor; Body 1.6x0.8mm (LxW typ))
pins: 1, 2

## R3R6K-0603
designator R?  value 3R6K  (hidden comment: R3R6K-0603)
Pb-free,0603,3.6kΩ,1%,1/16w,±200PPM,50V,-55℃～155℃; Part Number: 3DZ0030041; specification: Pb-free,0603,3.6kΩ,1%,1/16w,±200PPM,50V,-55℃～155℃
footprint R0603L (Chip Inductor; Body 1.6x0.8mm (LxW typ))
pins: 1, 2

## R3R9R-0603
designator R?  value 3R9R  (hidden comment: R3R9R-0603)
Pb-free,0603,3.9Ω,1%,1/16w,±200PPM,50V,-55℃～155℃; Part Number: 3DZ0030090; specification: Pb-free,0603,3.9Ω,1%,1/16w,±200PPM,50V,-55℃～155℃
footprint R0603L (Chip Inductor; Body 1.6x0.8mm (LxW typ))
pins: 1, 2

## R3R9R-1206
designator R?  value 3R9R  (hidden comment: R3R9R-1206)
Pb-free,1206,3.9Ω,5%,1/4w,±200PPM,100V,-55℃～155℃; Part Number: 3DZ0030042; specification: Pb-free,1206,3.9Ω,5%,1/4w,±200PPM,100V,-55℃～155℃
footprint R1206L (Footprint not found)
pins: 1, 2

## R4R02K-0805
designator R?  value 4R02K  (hidden comment: *)
Pb-free,0805,4.02kΩ,1%,1/8W,±100PPM,100V,-55℃～155℃; Part Number: 3DZ0030052; specification: Pb-free,0805,4.02kΩ,1%,1/8W,±100PPM,100V,-55℃～155℃
footprint R0805L (Footprint not found)
pins: 1, 2

## R4R87K-0603
designator R?  value 4R87K  (hidden comment: R4R87K-0603)
Pb-free,0603,4.87kΩ,1%,1/16w,±200PPM,50V,-55℃～155℃; Part Number: 3DZ0030106; specification: Pb-free,0603,4.87kΩ,1%,1/16w,±200PPM,50V,-55℃～155℃
footprint R0603L (Chip Inductor; Body 1.6x0.8mm (LxW typ))
pins: 1, 2

## R5R1K-0603
designator R?  value 5R1K  (hidden comment: *)
Pb-free,0603,5.1kΩ,1%,1/16w,±200PPM,50V,-55℃～155℃; Part Number: 3DZ0030056; specification: Pb-free,0603,5.1kΩ,1%,1/16w,±200PPM,50V,-55℃～155℃
footprint R0603L (Chip Inductor; Body 1.6x0.8mm (LxW typ))
pins: 1, 2

## R5R1K-0805
designator R?  value 5R1K  (hidden comment: *)
Pb-free,0805,5.1kΩ,1%,1/8W,±100PPM,100V,-55℃～155℃; Part Number: 3DZ0030057; specification: Pb-free,0805,5.1kΩ,1%,1/8W,±100PPM,100V,-55℃～155℃
footprint R0805L (Footprint not found)
pins: 1, 2

## R5R1M-0603
designator R?  value 5R1M  (hidden comment: *)
Pb-free,0603,5.1MΩ,1%,1/16w,±200PPM,50V,-55℃～155℃; Part Number: 3DZ0030084; specification: Pb-free,0603,5.1MΩ,1%,1/16w,±200PPM,50V,-55℃～155℃
footprint R0603L (Chip Inductor; Body 1.6x0.8mm (LxW typ))
pins: 1, 2

## R6R2K-0603
designator R?  value 6R2K  (hidden comment: *)
Pb-free,0603,6.2kΩ,1%,1/16w,±200PPM,50V,-55℃～155℃; Part Number: 3DZ0030064; specification: Pb-free,0603,6.2kΩ,1%,1/16w,±200PPM,50V,-55℃～155℃
footprint R0603L (Chip Inductor; Body 1.6x0.8mm (LxW typ))
pins: 1, 2

## R6R8K-0603
designator R?  value 6R8K  (hidden comment: *)
Pb-free,0603,6.8kΩ,1%,1/16w,±200PPM,50V,-55℃～155℃; Part Number: 3DZ0030065; specification: Pb-free,0603,6.8kΩ,1%,1/16w,±200PPM,50V,-55℃～155℃
footprint R0603L (Chip Inductor; Body 1.6x0.8mm (LxW typ))
pins: 1, 2

## R6R8K-0805
designator R?  value 6R8K  (hidden comment: *)
Pb-free,0805,6.8kΩ,1%,1/8W,±100PPM,100V,-55℃～155℃; Part Number: 3DZ0030066; specification: Pb-free,0805,6.8kΩ,1%,1/8W,±100PPM,100V,-55℃～155℃
footprint R0805L (Footprint not found)
pins: 1, 2

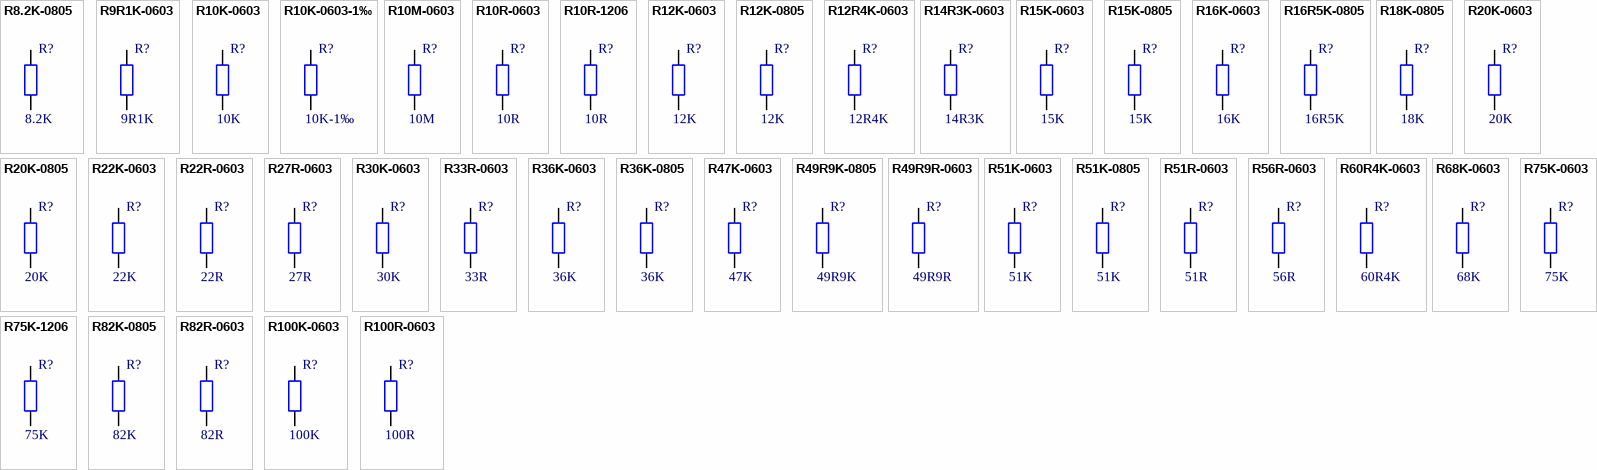
[diagram p3: symbols R8.2K-0805 to R100R-0603]

## R8.2K-0805
designator R?  value 8.2K  (hidden comment: *)
Pb-free,0805,8.2kΩ,1%,1/8W,±100PPM,100V,-55℃～155℃; Part Number: 3DZ0030072; specification: Pb-free,0805,8.2kΩ,1%,1/8W,±100PPM,100V,-55℃～155℃
footprint R0805L (Footprint not found)
pins: 1, 2

## R9R1K-0603
designator R?  value 9R1K  (hidden comment: *)
Pb-free,0603,9.1kΩ,1%,1/16w,±200PPM,50V,-55℃～155℃; Part Number: 3DZ0030080; specification: Pb-free,0603,9.1kΩ,1%,1/16w,±200PPM,50V,-55℃～155℃
footprint R0603L (Chip Inductor; Body 1.6x0.8mm (LxW typ))
pins: 1, 2

## R10K-0603
designator R?  value 10K  (hidden comment: *)
Pb-free,0603,10kΩ,1%,1/16w,±200PPM,50V,-55℃～155℃; Part Number: 3DZ0030010; specification: Pb-free,0603,10kΩ,1%,1/16w,±200PPM,50V,-55℃～155℃
footprint R0603L (Chip Inductor; Body 1.6x0.8mm (LxW typ))
pins: 1, 2

## R10K-0603-1‰
designator R?  value 10K-1‰  (hidden comment: R10K-0603-1‰)
Pb-free,贴片高精密电阻,10KΩ,0603,±1‰,1/16W,±50PPM,50V,-55℃～155℃; Part Number: 3DZ0032003; specification: Pb-free,贴片高精密电阻,10KΩ,0603,±1‰,1/16W,±50PPM,50V,-55℃～155℃
footprint R0603L (Footprint not found)
pins: 1, 2

## R10M-0603
designator R?  value 10M  (hidden comment: *)
Pb-free,0603,10MΩ,1%,1/16w,±200PPM,50V,-55℃～155℃; Part Number: 3DZ0030087; specification: Pb-free,0603,10MΩ,1%,1/16w,±200PPM,50V,-55℃～155℃
footprint R0603L (Chip Inductor; Body 1.6x0.8mm (LxW typ))
pins: 1, 2

## R10R-0603
designator R?  value 10R  (hidden comment: *)
Pb-free,0603,10Ω,1%,1/16w,±200PPM,50V,-55℃～155℃; Part Number: 3DZ0030011; specification: Pb-free,0603,10Ω,1%,1/16w,±200PPM,50V,-55℃～155℃
footprint R0603L (Chip Inductor; Body 1.6x0.8mm (LxW typ))
pins: 1, 2

## R10R-1206
designator R?  value 10R  (hidden comment: *)
Pb-free,1206,10Ω,5%,1/4W,±200PPM,200V,-55℃～155℃; Part Number: 3DZ0030092; specification: Pb-free,1206,10Ω,5%,1/4W,±200PPM,200V,-55℃～155℃
footprint R1206L (Footprint not found)
pins: 1, 2

## R12K-0603
designator R?  value 12K  (hidden comment: *)
Pb-free,0603,12kΩ,1%,1/16w,±200PPM,50V,-55℃～155℃; Part Number: 3DZ0030014; specification: Pb-free,0603,12kΩ,1%,1/16w,±200PPM,50V,-55℃～155℃
footprint R0603L (Chip Inductor; Body 1.6x0.8mm (LxW typ))
pins: 1, 2

## R12K-0805
designator R?  value 12K  (hidden comment: *)
Pb-free,0805,12kΩ,1%,1/8W,±100PPM,100V,-55℃～155℃; Part Number: 3DZ0030015; specification: Pb-free,0805,12kΩ,1%,1/8W,±100PPM,100V,-55℃～155℃
footprint R0805L (Footprint not found)
pins: 1, 2

## R12R4K-0603
designator R?  value 12R4K  (hidden comment: *)
Pb-free,0603,12.4kΩ,1%,1/16w,±200PPM,50V,-55℃～155℃; Part Number: 3DZ0030081; specification: Pb-free,0603,12.4kΩ,1%,1/16w,±200PPM,50V,-55℃～155℃
footprint R0603L (Chip Inductor; Body 1.6x0.8mm (LxW typ))
pins: 1, 2

## R14R3K-0603
designator R?  value 14R3K  (hidden comment: *)
Pb-free,0603,14.3kΩ,1%,1/16w,±200PPM,50V,-55℃～155℃; Part Number: 3DZ0030017; specification: Pb-free,0603,14.3kΩ,1%,1/16w,±200PPM,50V,-55℃～155℃
footprint R0603L (Chip Inductor; Body 1.6x0.8mm (LxW typ))
pins: 1, 2

## R15K-0603
designator R?  value 15K  (hidden comment: *)
Pb-free,0603,15kΩ,1%,1/16w,±200PPM,50V,-55℃～155℃; Part Number: 3DZ0030021; specification: Pb-free,0603,15kΩ,1%,1/16w,±200PPM,50V,-55℃～155℃
footprint R0603L (Chip Inductor; Body 1.6x0.8mm (LxW typ))
pins: 1, 2

## R15K-0805
designator R?  value 15K  (hidden comment: *)
Pb-free,0805,15kΩ,1%,1/8W,±100PPM,100V,-55℃～155℃; Part Number: 3DZ0030022; specification: Pb-free,0805,15kΩ,1%,1/8W,±100PPM,100V,-55℃～155℃
footprint R0805L (Footprint not found)
pins: 1, 2

## R16K-0603
designator R?  value 16K  (hidden comment: *)
Pb-free,0603,16kΩ,1%,1/16W,±100PPM,50V,-55℃～155℃; Part Number: 3DZ0030103; specification: Pb-free,0603,16kΩ,1%,1/16W,±100PPM,50V,-55℃～155℃
footprint R0603L (Chip Inductor; Body 1.6x0.8mm (LxW typ))
pins: 1, 2

## R16R5K-0805
designator R?  value 16R5K  (hidden comment: *)
Pb-free,0805,16.5kΩ,1%,1/8W,±100PPM,100V,-55℃～155℃; Part Number: 3DZ0030023; specification: Pb-free,0805,16.5kΩ,1%,1/8W,±100PPM,100V,-55℃～155℃
footprint R0805L (Footprint not found)
pins: 1, 2

## R18K-0805
designator R?  value 18K  (hidden comment: *)
Pb-free,0805,18kΩ,1%,1/8W,±100PPM,100V,-55℃～155℃; Part Number: 3DZ0030024; specification: Pb-free,0805,18kΩ,1%,1/8W,±100PPM,100V,-55℃～155℃
footprint R0805L (Footprint not found)
pins: 1, 2

## R20K-0603
designator R?  value 20K  (hidden comment: *)
Pb-free,0603,300kΩ,1%,1/16w,±200PPM,50V,-55℃～155℃; Part Number: 3DZ0030034; specification: Pb-free,0603,300kΩ,1%,1/16w,±200PPM,50V,-55℃～155℃
footprint R0603L (Chip Inductor; Body 1.6x0.8mm (LxW typ))
pins: 1, 2

## R20K-0805
designator R?  value 20K  (hidden comment: *)
Pb-free,0805,20kΩ,1%,1/8W,±100PPM,100V,-55℃～155℃; Part Number: 3DZ0030035; specification: Pb-free,0805,20kΩ,1%,1/8W,±100PPM,100V,-55℃～155℃
footprint R0805L (Footprint not found)
pins: 1, 2

## R22K-0603
designator R?  value 22K  (hidden comment: *)
Pb-free,0603,22kΩ,1%,1/16w,±200PPM,50V,-55℃～155℃; Part Number: 3DZ0030038; specification: Pb-free,0603,22kΩ,1%,1/16w,±200PPM,50V,-55℃～155℃
footprint R0603L (Chip Inductor; Body 1.6x0.8mm (LxW typ))
pins: 1, 2

## R22R-0603
designator R?  value 22R  (hidden comment: *)
Pb-free,0603,22Ω,1%,1/16w,±200PPM,50V,-55℃～155℃; Part Number: 3DZ0030078; specification: Pb-free,0603,22Ω,1%,1/16w,±200PPM,50V,-55℃～155℃
footprint R0603L (Chip Inductor; Body 1.6x0.8mm (LxW typ))
pins: 1, 2

## R27R-0603
designator R?  value 27R  (hidden comment: *)
Pb-free,0603,27Ω,1%,1/16W,±200PPM,50V,-55℃～155℃; Part Number: 3DZ0030096; specification: Pb-free,0603,27Ω,1%,1/16W,±200PPM,50V,-55℃～155℃
footprint R0603L (Chip Inductor; Body 1.6x0.8mm (LxW typ))
pins: 1, 2

## R30K-0603
designator R?  value 30K  (hidden comment: *)
Pb-free,0603,30kΩ,1%,1/16w,±200PPM,50V,-55℃～155℃; Part Number: 3DZ0030047; specification: Pb-free,0603,30kΩ,1%,1/16w,±200PPM,50V,-55℃～155℃
footprint R0603L (Chip Inductor; Body 1.6x0.8mm (LxW typ))
pins: 1, 2

## R33R-0603
designator R?  value 33R  (hidden comment: *)
Pb-free,0603,33Ω,1%,1/16w,±200PPM,50V,-55℃～155℃; Part Number: 3DZ0030082; specification: Pb-free,0603,33Ω,1%,1/16w,±200PPM,50V,-55℃～155℃
footprint R0603L (Chip Inductor; Body 1.6x0.8mm (LxW typ))
pins: 1, 2

## R36K-0603
designator R?  value 36K  (hidden comment: *)
Pb-free,0603,36kΩ,1%,1/16w,±200PPM,50V,-55℃～155℃; Part Number: 3DZ0030049; specification: Pb-free,0603,36kΩ,1%,1/16w,±200PPM,50V,-55℃～155℃
footprint R0603L (Chip Inductor; Body 1.6x0.8mm (LxW typ))
pins: 1, 2

## R36K-0805
designator R?  value 36K  (hidden comment: *)
Pb-free,0805,36kΩ,1%,1/8W,±100PPM,100V,-55℃～155℃; Part Number: 3DZ0030050; specification: Pb-free,0805,36kΩ,1%,1/8W,±100PPM,100V,-55℃～155℃
footprint R0805L (Footprint not found)
pins: 1, 2

## R47K-0603
designator R?  value 47K  (hidden comment: *)
Pb-free,0603,47kΩ,1%,1/16w,±200PPM,50V,-55℃～155℃; Part Number: 3DZ0030054; specification: Pb-free,0603,47kΩ,1%,1/16w,±200PPM,50V,-55℃～155℃
footprint R0603L (Chip Inductor; Body 1.6x0.8mm (LxW typ))
pins: 1, 2

## R49R9K-0805
designator R?  value 49R9K  (hidden comment: *)
Pb-free,0805,49.9kΩ,1%,1/8W,±100PPM,100V,-55℃～155℃; Part Number: 3DZ0030055; specification: Pb-free,0805,49.9kΩ,1%,1/8W,±100PPM,100V,-55℃～155℃
footprint R0805L (Footprint not found)
pins: 1, 2

## R49R9R-0603
designator R?  value 49R9R  (hidden comment: *)
Pb-free,0603,49.9Ω,1%,1/16w,±200PPM,50V,-55℃～155℃; Part Number: 3DZ0030108; specification: Pb-free,0603,49.9Ω,1%,1/16w,±200PPM,50V,-55℃～155℃
footprint R0603L (Chip Inductor; Body 1.6x0.8mm (LxW typ))
pins: 1, 2

## R51K-0603
designator R?  value 51K  (hidden comment: *)
Pb-free,0603,51kΩ,1%,1/16w,±200PPM,50V,-55℃～155℃; Part Number: 3DZ0030060; specification: Pb-free,0603,51kΩ,1%,1/16w,±200PPM,50V,-55℃～155℃
footprint R0603L (Chip Inductor; Body 1.6x0.8mm (LxW typ))
pins: 1, 2

## R51K-0805
designator R?  value 51K  (hidden comment: *)
Pb-free,0805,51kΩ,1%,1/8W,±100PPM,100V,-55℃～155℃; Part Number: 3DZ0030061; specification: Pb-free,0805,51kΩ,1%,1/8W,±100PPM,100V,-55℃～155℃
footprint R0805L (Footprint not found)
pins: 1, 2

## R51R-0603
designator R?  value 51R  (hidden comment: *)
Pb-free,0603,51Ω,1%,1/16w,±200PPM,50V,-55℃～155℃; Part Number: 3DZ0030062; specification: Pb-free,0603,51Ω,1%,1/16w,±200PPM,50V,-55℃～155℃
footprint R0603L (Chip Inductor; Body 1.6x0.8mm (LxW typ))
pins: 1, 2

## R56R-0603
designator R?  value 56R  (hidden comment: *)
Pb-free,0603,56Ω,1%,1/16w,±200PPM,50V,-55℃～155℃; Part Number: 3DZ0030076; specification: Pb-free,0603,56Ω,1%,1/16w,±200PPM,50V,-55℃～155℃
footprint R0603L (Chip Inductor; Body 1.6x0.8mm (LxW typ))
pins: 1, 2

## R60R4K-0603
designator R?  value 60R4K  (hidden comment: *)
Pb-free,0603,60.4kΩ,1%,1/16w,±200PPM,50V,-55℃～155℃; Part Number: 3DZ0030067; specification: Pb-free,0603,60.4kΩ,1%,1/16w,±200PPM,50V,-55℃～155℃
footprint R0603L (Chip Inductor; Body 1.6x0.8mm (LxW typ))
pins: 1, 2

## R68K-0603
designator R?  value 68K  (hidden comment: *)
Pb-free,0603,68kΩ,1%,1/16w,±200PPM,50V,-55℃～155℃; Part Number: 3DZ0030070; specification: Pb-free,0603,68kΩ,1%,1/16w,±200PPM,50V,-55℃～155℃
footprint R0603L (Chip Inductor; Body 1.6x0.8mm (LxW typ))
pins: 1, 2

## R75K-0603
designator R?  value 75K  (hidden comment: *)
Pb-free,0603,75kΩ,1%,1/16w,±200PPM,50V,-55℃～155℃; Part Number: 3DZ0030071; specification: Pb-free,0603,75kΩ,1%,1/16w,±200PPM,50V,-55℃～155℃
footprint R0603L (Chip Inductor; Body 1.6x0.8mm (LxW typ))
pins: 1, 2

## R75K-1206
designator R?  value 75K  (hidden comment: *)
Pb-free,1206,75kΩ,5%,1/4W,±200PPM,200V,-55℃～155℃; Part Number: 3DZ0030083; specification: Pb-free,1206,75kΩ,5%,1/4W,±200PPM,200V,-55℃～155℃
footprint R1206L (Footprint not found)
pins: 1, 2

## R82K-0805
designator R?  value 82K  (hidden comment: *)
Pb-free,0805,82kΩ,1%,1/8W,±100PPM,100V,-55℃～155℃; Part Number: 3DZ0030073; specification: Pb-free,0805,82kΩ,1%,1/8W,±100PPM,100V,-55℃～155℃
footprint R0805L (Footprint not found)
pins: 1, 2

## R82R-0603
designator R?  value 82R  (hidden comment: *)
Pb-free,0603,82Ω,1%,1/16w,±200PPM,50V,-55℃～155℃; Part Number: 3DZ0030074; specification: Pb-free,0603,82Ω,1%,1/16w,±200PPM,50V,-55℃～155℃
footprint R0603L (Chip Inductor; Body 1.6x0.8mm (LxW typ))
pins: 1, 2

## R100K-0603
designator R?  value 100K  (hidden comment: *)
Pb-free,0603,100kΩ,1%,1/16w,±200PPM,50V,-55℃～155℃; Part Number: 3DZ0030006; specification: Pb-free,0603,100kΩ,1%,1/16w,±200PPM,50V,-55℃～155℃
footprint R0603L (Chip Inductor; Body 1.6x0.8mm (LxW typ))
pins: 1, 2

## R100R-0603
designator R?  value 100R  (hidden comment: *)
Pb-free,0603,100Ω,1%,1/16w,±200PPM,50V,-55℃～155℃; Part Number: 3DZ0030008; specification: Pb-free,0603,100Ω,1%,1/16w,±200PPM,50V,-55℃～155℃
footprint R0603L (Chip Inductor; Body 1.6x0.8mm (LxW typ))
pins: 1, 2

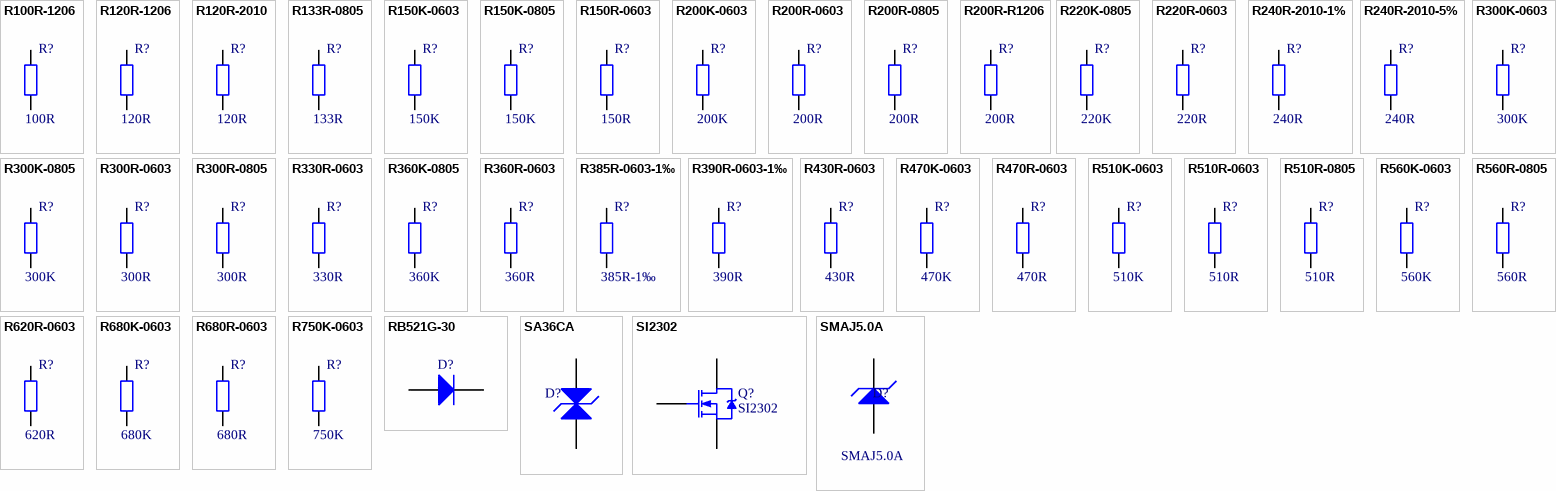
[diagram p4: symbols R100R-1206 to SMAJ5.0A]

## R100R-1206
designator R?  value 100R  (hidden comment: *)
Pb-free,1206,100Ω,1%,1/4W,±100PPM,200V,-55℃～155℃; Part Number: 3DZ0030097; specification: Pb-free,1206,100Ω,1%,1/4W,±100PPM,200V,-55℃～155℃
footprint R1206L (Footprint not found)
pins: 1, 2

## R120R-1206
designator R?  value 120R  (hidden comment: *)
Pb-free,1206,120Ω,1%,1/4W,±100PPM,200V,-55℃～155℃; Part Number: 3DZ0030098; specification: Pb-free,1206,120Ω,1%,1/4W,±100PPM,200V,-55℃～155℃
footprint R1206L (Footprint not found)
pins: 1, 2

## R120R-2010
designator R?  value 120R  (hidden comment: *)
Pb-free,2010,120Ω,5%,1W,±100PPM,200V,-55℃～155℃; Part Number: 3DZ0030099; specification: Pb-free,2010,120Ω,5%,1W,±100PPM,200V,-55℃～155℃
footprint R2010L (Footprint not found)
pins: 1, 2

## R133R-0805
designator R?  value 133R  (hidden comment: *)
Pb-free,0805,133Ω,1%,1/8W,±100PPM,100V,-55℃～155℃; Part Number: 3DZ0030016; specification: Pb-free,0805,133Ω,1%,1/8W,±100PPM,100V,-55℃～155℃
footprint R0805L (Footprint not found)
pins: 1, 2

## R150K-0603
designator R?  value 150K  (hidden comment: *)
Pb-free,0603,150kΩ,1%,1/16w,±200PPM,50V,-55℃～155℃; Part Number: 3DZ0030018; specification: Pb-free,0603,150kΩ,1%,1/16w,±200PPM,50V,-55℃～155℃
footprint R0603L (Chip Inductor; Body 1.6x0.8mm (LxW typ))
pins: 1, 2

## R150K-0805
designator R?  value 150K  (hidden comment: *)
Pb-free,0805,150kΩ,1%,1/8W,±100PPM,100V,-55℃～155℃; Part Number: 3DZ0030019; specification: Pb-free,0805,150kΩ,1%,1/8W,±100PPM,100V,-55℃～155℃
footprint R0805L (Footprint not found)
pins: 1, 2

## R150R-0603
designator R?  value 150R  (hidden comment: *)
Pb-free,0603,150Ω,1%,1/16w,±200PPM,50V,-55℃～155℃; Part Number: 3DZ0030020; specification: Pb-free,0603,150Ω,1%,1/16w,±200PPM,50V,-55℃～155℃
footprint R0603L (Chip Inductor; Body 1.6x0.8mm (LxW typ))
pins: 1, 2

## R200K-0603
designator R?  value 200K  (hidden comment: *)
Pb-free,0603,200kΩ,1%,1/16w,±200PPM,50V,-55℃～155℃; Part Number: 3DZ0030031; specification: Pb-free,0603,200kΩ,1%,1/16w,±200PPM,50V,-55℃～155℃
footprint R0603L (Chip Inductor; Body 1.6x0.8mm (LxW typ))
pins: 1, 2

## R200R-0603
designator R?  value 200R  (hidden comment: *)
Pb-free,0603,200Ω,1%,1/16w,±200PPM,50V,-55℃～155℃; Part Number: 3DZ0030032; specification: Pb-free,0603,200Ω,1%,1/16w,±200PPM,50V,-55℃～155℃
footprint R0603L (Chip Inductor; Body 1.6x0.8mm (LxW typ))
pins: 1, 2